# EAGLE library part 2479774-2 (library 2479774-2)
USB Type-C Charge-only, 6 Pin, Top, 3u GF Source: Datasheet <http://www.te.com/en/product-2479774-2.html>
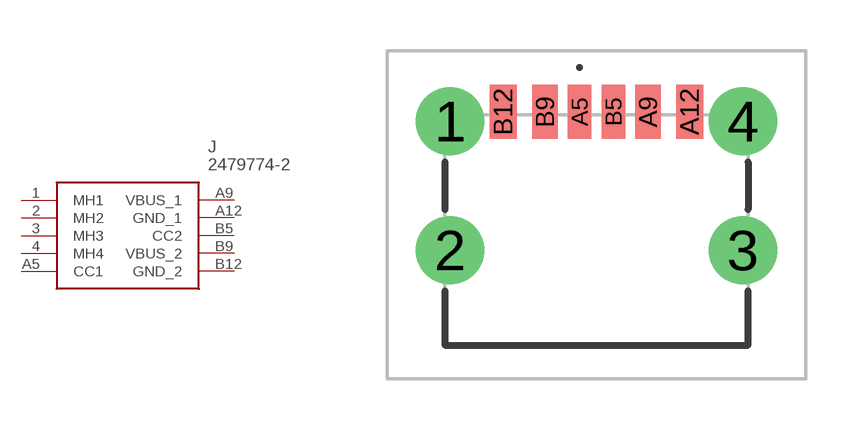
[diagram p0: symbol with the pads of 24797742; footprint 24797742]

Designator prefix J

## 2479774-2 (Description: USB Type-C Charge-only, 6 Pin, Top, 3u GF; Height: 3.31mm; Manufacturer_Name: TE Connectivity; Manufacturer_Part_Number: 2479774-2; Mouser_Part_Number: 571-2479774-2; Mouser_Price-Stock: https://www.mouser.co.uk/ProductDetail/TE-Connectivity/2479774-2?qs=dbcCsuKDzFUIulIRPaOxAw%3D%3D)  [24797742]
1  MH1
2  MH2
3  MH3
4  MH4
A5  CC1
A9  VBUS_1
A12  GND_1
B5  CC2
B9  VBUS_2
B12  GND_2

## Footprint 24797742 (pad centres in mm)
2479774-2-1
drill 1.34 pad 1.7: 1 -4.32,3.16; 2 -4.32,-0.64; 3 4.32,-0.64; 4 4.32,3.16
smd 0.7 x 1.6: A5 -0.5,3.44; B5 0.5,3.44
smd 0.76 x 1.6: A9 1.52,3.44; B9 -1.52,3.44
smd 0.8 x 1.6: A12 2.75,3.44; B12 -2.75,3.44